# EAGLE library part ATTINY13 (library Synapseware-avr)
The ATtiny13 is a low-power CMOS 8-bit microcontroller based on the AVR enhanced RISC architecture. By executing powerful instructions in a single clock cycle, the ATtiny13 achieves throughputs approaching 1 MIPS per MHz allowing the system designer to optimize power consumption versus processing speed.
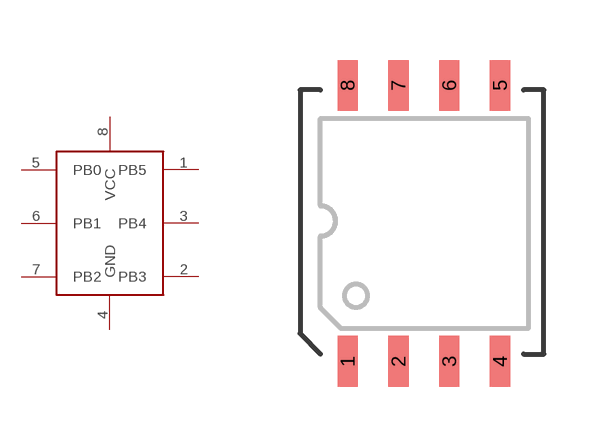
[diagram p0: symbol with the pads of WSOIC-8; footprint WSOIC-8]

Designator prefix -

## ATTINY13  [WSOIC-8]
1  PB5
2  PB3
3  PB4
4  GND
5  PB0
6  PB1
7  PB2
8  VCC

## Footprint WSOIC-8 (pad centres in mm)
WSOIC-8 (8S2)
smd 0.508 x 1.27: 1 -1.855,-3.486; 2 -0.585,-3.486; 3 0.685,-3.486; 4 1.955,-3.486; 5 1.955,3.413; 6 0.685,3.413; 7 -0.585,3.413; 8 -1.855,3.413